# Altium integrated library Relays.IntLib: 3 symbols
Pins are listed as number, name and electrical type; pins without a type are passive.

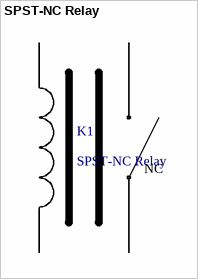
[diagram p0: symbol SPST-NC Relay]

## SPST-NC Relay
designator K1
footprint SPST-NC Relay - TE (PB1714-ND /    RYA50012)
pins: 11, 12, A1, A2
text: NC


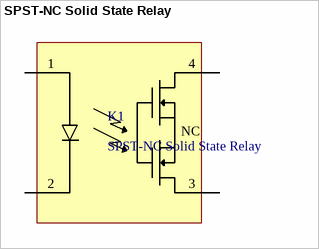
[diagram p1: symbol SPST-NC Solid State Relay]

## SPST-NC Solid State Relay
designator K1
footprint SPST-NC Solid State Relay - IXYS (Digikey: CLA268CT-ND / MFG: CPC1117NTR)
pins: 1 Control +, 2 Control -, 3 Load, 4 Load
text: NC


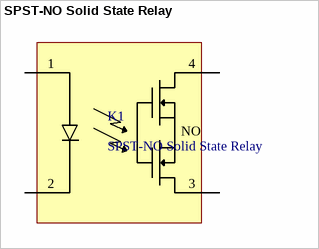
[diagram p2: symbol SPST-NO Solid State Relay]

## SPST-NO Solid State Relay
designator K1
footprint SPST-NO Solid State Relay - IXYS (Digikey: CLA233CT-ND / MFG: CPC1017NTR)
pins: 1 Control +, 2 Control -, 3 Load, 4 Load
text: NO